# Altium footprint library FUSE.PcbLib: 11 footprints
Each footprint in its own frame and in the unit in brackets; x right, y up, seen from the top. Pads: shape width x height; smd on the part's side, far side on the other; paste and mask are expansions set on the pad; w line width, h text height; cw(c..) or ccw(c..) is an arc to the next point about the centre after c.
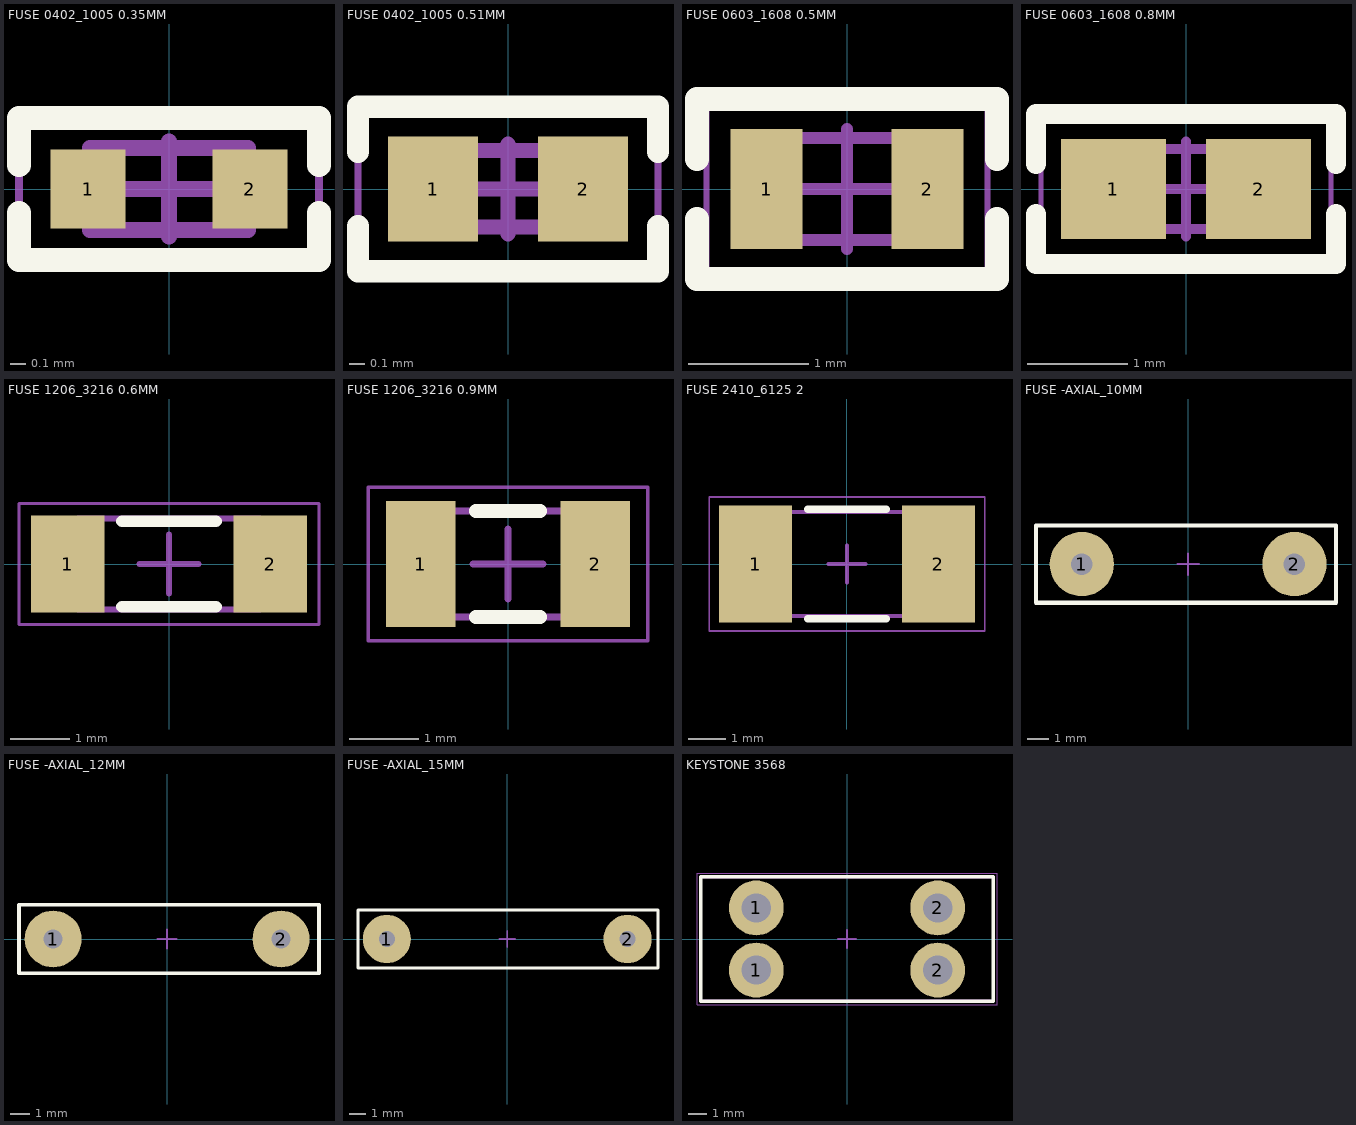
[diagram p0: the footprints below, top view; thin cyan lines are the x and y axes]

## FUSE 0402_1005 0.35MM [mm] "Chip Fuse 2A AC 32V DC, 2 Leads, Body 1.00x0.52mm"
height 0.4
pads (2):
  rect 0.475x0.5 smd: 1(-0.512,0) 2(0.513,0)
Top Overlay:
  lines w0.15: -0.95,-0.15 -0.95,-0.45 0.95,-0.45 0.95,-0.15 ; -0.95,0.15 -0.95,0.45 0.95,0.45 0.95,0.15
Mechanical 13:
  lines w0.1: -0.5,-0.26 -0.5,0.26 0.5,0.26 0.5,-0.26 -0.5,-0.26
Mechanical 15:
  lines w0.05: -0.95,-0.45 0.95,-0.45 0.95,0.45 -0.95,0.45 -0.95,-0.45
  lines w0.1: -0.3,0 0,0 ; 0,-0.3 0,0 ; 0,0.3 0,0 ; 0.3,0 0,0
3D body "FUSE 0402_1005 0.35MM.step": height 0.41, standoff 0, extent -0.5,-0.26 0.5,0.26

## FUSE 0402_1005 0.51MM [mm] "Chip Fuse 1A AC 24V DC, 2 Leads, Body 1.00x0.51mm"
height 0.61
pads (2):
  rect 0.6x0.7 smd: 1(-0.5,0) 2(0.5,0)
Top Overlay:
  lines w0.15: -1,-0.25 -1,-0.55 1,-0.55 1,-0.25 ; -1,0.25 -1,0.55 1,0.55 1,0.25
Mechanical 13:
  lines w0.1: -0.5,-0.255 0.5,-0.255 0.5,0.255 -0.5,0.255 -0.5,-0.255
Mechanical 15:
  lines w0.05: -1,-0.55 1,-0.55 1,0.55 -1,0.55 -1,-0.55
  lines w0.1: -0.3,0 0,0 ; 0,-0.3 0,0 ; 0,0.3 0,0 ; 0.3,0 0,0
3D body "FUSE 0402_1005 0.51MM.step": height 0.61, standoff 0, extent -0.5,-0.255 0.5,0.255

## FUSE 0603_1608 0.5MM [mm] "Chip Fuse 1.5A AC 5V DC, 2-Leads, Body 1.54x0.85mm"
height 0.59
pads (2):
  rect 0.6x1 smd: 1(-0.67,0) 2(0.67,0)
Top Overlay:
  lines w0.2: -1.25,-0.25 -1.25,-0.75 1.25,-0.75 1.25,-0.25 ; -1.25,0.25 -1.25,0.75 1.25,0.75 1.25,0.25
Mechanical 13:
  lines w0.1: -0.77,-0.425 -0.77,0.425 0.77,0.425 0.77,-0.425 -0.77,-0.425
Mechanical 15:
  lines w0.05: -1.17,-0.7 1.17,-0.7 1.17,0.7 -1.17,0.7 -1.17,-0.7
  lines w0.1: -0.5,0 0,0 ; 0,-0.5 0,0 ; 0,0.5 0,0 ; 0.5,0 0,0
3D body "FUSE 0603_1608 0.5MM.step": height 0.58, standoff 0, extent -0.77,-0.425 0.77,0.425

## FUSE 0603_1608 0.8MM [mm] "Chip Fuse 1.5A AC 32V DC, 2-Leads, Body 1.60x0.80mm, IPC Medium Density"
height 0.95
pads (2):
  rect 1.05x1 smd: 1(-0.725,0) 2(0.725,0)
Top Overlay:
  lines w0.2: -1.5,-0.25 -1.5,-0.75 1.5,-0.75 1.5,-0.25 ; -1.5,0.25 -1.5,0.75 1.5,0.75 1.5,0.25
Mechanical 13:
  lines w0.1: -0.8,-0.4 0.8,-0.4 0.8,0.4 -0.8,0.4 -0.8,-0.4
Mechanical 15:
  lines w0.05: -1.45,-0.7 1.45,-0.7 1.45,0.7 -1.45,0.7 -1.45,-0.7
  lines w0.1: -0.475,0 0.475,0 ; 0,-0.475 0,0.475
3D body "FUSE 0603_1608 0.8MM.step": height 0.95, standoff 0, extent -0.8,-0.4 0.8,0.4

## FUSE 1206_3216 0.6MM [mm] "Chip Fuse 1.5A AC 63V DC, 2-Leads, Body 3.10x1.55mm, IPC Medium Densitym"
height 0.7
pads (2):
  rect 1.25x1.65 smd: 1(-1.725,0) 2(1.725,0)
Top Overlay:
  lines w0.2: -0.8,-0.725 0.8,-0.725 ; -0.8,0.725 0.8,0.725
Mechanical 13:
  lines w0.1: -1.55,-0.775 1.55,-0.775 1.55,0.775 -1.55,0.775 -1.55,-0.775
Mechanical 15:
  lines w0.05: -2.55,-1.025 2.55,-1.025 2.55,1.025 -2.55,1.025 -2.55,-1.025
  lines w0.1: -0.5,0 0.5,0 ; 0,-0.5 0,0.5
3D body "FUSE 1206_3216 0.6MM.step": height 0.76, standoff 0, extent -1.55,-0.775 1.55,0.775

## FUSE 1206_3216 0.9MM [mm] "Chip Fuse 200mA 125V AC 125V DC, 2-Leads, Body 3.18x1.52mm, IPC Medium Density"
height 0.66
pads (2):
  rect 1x1.8 smd: 1(-1.25,0) 2(1.25,0)
Top Overlay:
  lines w0.2: -0.46,-0.762 0.46,-0.762 ; -0.46,0.762 0.46,0.762
Mechanical 13:
  lines w0.1: -1.587,-0.762 -1.587,0.762 1.587,0.762 1.587,-0.762 -1.587,-0.762
Mechanical 15:
  lines w0.05: -2,-1.1 -2,1.1 2,1.1 2,-1.1 -2,-1.1
  lines w0.1: -0.5,0 0.5,0 ; 0,-0.5 0,0.5
3D body "FUSE 1206_3216 0.9MM.step": height 0.66, standoff 0, extent -1.587,-0.762 1.588,0.762

## FUSE 2410_6125 2 [mm]
height 2.79
pads (2):
  rect 1.96x3.15 smd: 1(-2.455,0) 2(2.455,0)
Top Overlay:
  lines w0.2: -1.05,-1.475 1.05,-1.475 ; -1.05,1.475 1.05,1.475
Mechanical 13:
  lines w0.1: -3.175,-1.395 3.175,-1.395 3.175,1.395 -3.175,1.395 -3.175,-1.395
Mechanical 15:
  lines w0.05: -3.7,-1.8 3.7,-1.8 3.7,1.8 -3.7,1.8 -3.7,-1.8
  lines w0.1: -0.5,0 0.5,0 ; 0,-0.5 0,0.5
3D body "FUSE 2410_6125 2.79MM.step": height 2.79, standoff 0, extent -3.175,-1.395 3.175,1.395

## FUSE -AXIAL_10MM [mm] "FUSE -AXIAL_10MM"
height 5
pads (2):
  round 3 hole 1: 1(-4.96,0) 2(4.96,0)
Top Overlay:
  lines w0.2: -7.1,-1.8 6.9,-1.8 6.9,1.8 -7.1,1.8 -7.1,-1.8
Mechanical 13:
  lines w0.1: -7.1,1.8 -7.1,-1.8 6.9,-1.8 6.9,1.793 -7.1,1.809
Mechanical 15:
  lines w0.05: -7.1,-1.8 6.9,-1.8 6.9,1.8 -7.1,1.8 -7.1,-1.8
  lines w0.1: -0.5,0 0.5,0 ; 0,-0.5 0,0.5
3D body "VP4.11_3.15A_10mm.stp": height 3.39, standoff -2, extent -5.3,-1.4 5.3,1.4

## FUSE -AXIAL_12MM [mm] "FUSE -AXIAL_12MM"
height 7.37
pads (2):
  round 3 hole 1: 1(-6,0) 2(6,0)
Top Overlay:
  lines w0.2: -7.8,-1.8 -7.8,1.8 8,1.8 8,-1.8 -7.8,-1.8
Mechanical 15:
  lines w0.05: -7.7,-1.8 -7.7,1.8 8,1.8 8,-1.8 -7.7,-1.8
  lines w0.1: -0.5,0 0.5,0 ; 0,-0.5 0,0.5
3D body "VP4.11_3.15A_12.5mm.stp": height 3.39, standoff -2, extent -6.55,-1.3 6.55,1.5

## FUSE -AXIAL_15MM [mm] "FUSE -AXIAL_15MM"
height 7.37
pads (2):
  round 3 hole 1: 1(-7.5,0) 2(7.5,0)
Top Overlay:
  lines w0.2: -9.3,-1.8 7.3,-1.8 9.4,-1.8 9.4,1.8 -9.3,1.8 -9.3,-1.8
Mechanical 15:
  lines w0.05: -9.3,-1.8 9.4,-1.8 9.4,1.8 -9.3,1.8 -9.3,-1.8
  lines w0.1: -0.5,0 0.5,0 ; 0,-0.5 0,0.5
3D body "VP4.11_3.15A_15mm.stp": height 3.39, standoff -2, extent -7.8,-1.4 7.8,1.4

## KEYSTONE 3568 [mm] "MINI PC AUTO-FUSE HOLDER"
height 7.37
pads (4):
  round 3 hole 1.6: 1(-4.96,-1.7) 1(-4.96,1.7) 2(4.96,-1.7) 2(4.96,1.7)
Top Overlay:
  lines w0.2: -8,-3.4 -8,3.4 8,3.4 8,-3.4 -8,-3.4
Mechanical 13:
  lines w0.1: -8,-3.365 -8,3.365 8,3.365 8,-3.365 -8,-3.365
Mechanical 15:
  lines w0.05: -8.2,-3.6 -8.2,3.6 8.2,3.6 8.2,-3.6 -8.2,-3.6
  lines w0.1: -0.5,0 0.5,0 ; 0,-0.5 0,0.5
3D body "Keystone - 3568.step": height 7.37, standoff -2.79, extent -8.001,-3.365 8.001,3.366